# Altium footprint library CONNECTOR.PcbLib: 12 footprints
Each footprint in its own frame and in the unit in brackets; x right, y up, seen from the top. Pads: shape width x height; smd on the part's side, far side on the other; paste and mask are expansions set on the pad; w line width, h text height; cw(c..) or ccw(c..) is an arc to the next point about the centre after c.
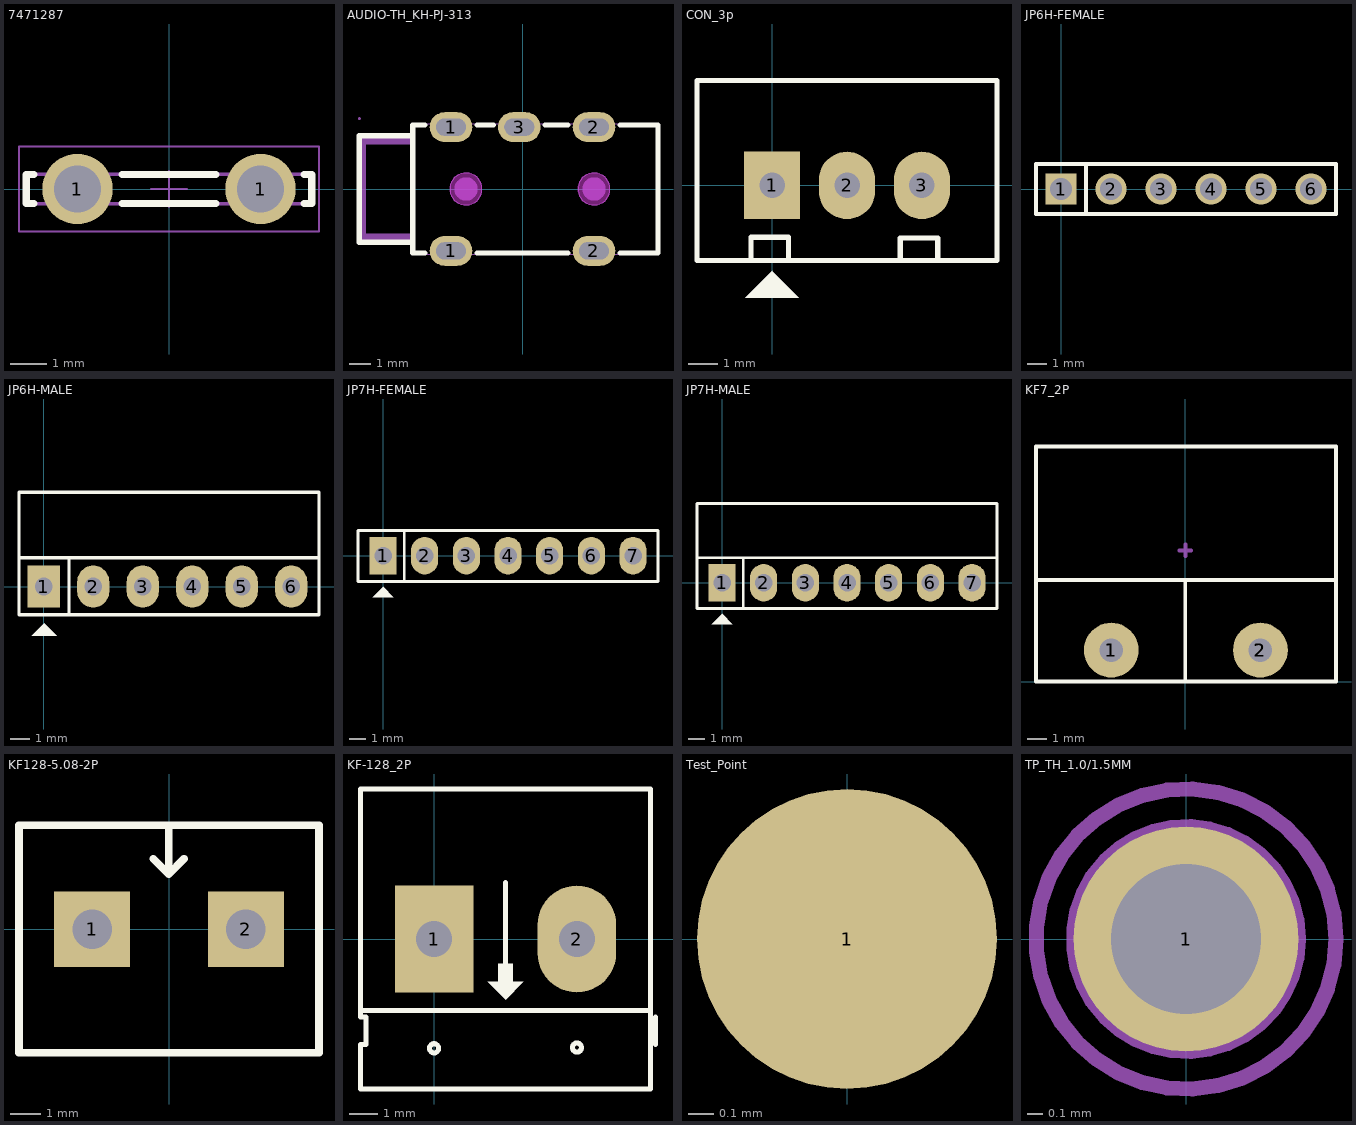
[diagram p0: the footprints below, top view; thin cyan lines are the x and y axes]

## 7471287 [mm] "Mounting Tabs & Tubular Cable Lugs"
height 10.21
pads (2):
  round 1.95 hole 1.3: 1(-2.54,0) 1(2.54,0)
Top Overlay:
  lines w0.2: -3.75,-0.405 -3.96,-0.405 -3.96,0.405 -3.75,0.405 ; -1.3,-0.405 1.3,-0.405 ; -1.3,0.405 1.3,0.405 ; 3.75,-0.405 3.96,-0.405 3.96,0.405 3.75,0.405
Mechanical 13:
  lines w0.1: -3.96,-0.405 -3.96,0.405 3.96,0.405 3.96,-0.405 -3.96,-0.405
Mechanical 15:
  lines w0.05: -0.5,0 0.5,0 ; 0,-0.5 0,0.5 ; -4.16,-1.175 4.16,-1.175 4.16,1.175 -4.16,1.175 -4.16,-1.175
  lines w0.1: -3.96,-0.405 3.96,-0.405 3.96,0.405 -3.96,0.405 -3.96,-0.405
Mechanical 29:
  text "'.Designator'" at -2.832,-0.208 h0.5
3D body "7471287.stp": height 10.27, standoff -3.75, extent -3.96,-0.405 3.96,0.405

## AUDIO-TH_KH-PJ-313 [mm]
pads (5):
  oval 2x1.4 hole 0.8 slot 1.4 at 0 deg: 1(-3.35,-2.9) 1(-3.35,2.9) 2(3.35,-2.9) 2(3.35,2.9) 3(-0.15,2.9)
Top Overlay:
  lines w0.254: -5.15,2.487 -5.15,2.5 -7.65,2.5 -7.65,-2.5 -5.15,-2.5 ; -4.569,-3 -5.15,-3 -5.15,-2.5 ; -4.569,3 -5.15,3 -5.15,-2.5 ; -2.131,-3 2.131,-3 ; -2.131,3 -1.369,3 ; 1.069,3 2.131,3 ; 4.569,-3 6.349,-3 6.349,3 6.001,3 ; 4.569,3 6,3
Keep-Out Layer:
  board cut-out: 4.1,0 4.1,-0.099 4.049,-0.289 3.95,-0.46 3.811,-0.6 3.639,-0.699 3.449,-0.75 3.251,-0.75 3.061,-0.699 2.889,-0.6 2.75,-0.46 2.651,-0.289 2.6,-0.099 2.6,0 2.6,0.099 2.651,0.29 2.75,0.461 2.889,0.6 3.061,0.699 3.251,0.75 3.449,0.75 3.639,0.699 3.811,0.6 3.95,0.461 4.049,0.29 4.1,0.099
  board cut-out: -1.9,0 -1.9,-0.099 -1.951,-0.289 -2.05,-0.46 -2.189,-0.6 -2.36,-0.699 -2.551,-0.75 -2.749,-0.75 -2.939,-0.699 -3.11,-0.6 -3.25,-0.46 -3.349,-0.289 -3.4,-0.099 -3.4,0 -3.4,0.099 -3.349,0.29 -3.25,0.461 -3.11,0.6 -2.939,0.699 -2.749,0.75 -2.551,0.75 -2.36,0.699 -2.189,0.6 -2.05,0.461 -1.951,0.29 -1.9,0.099
Keep-Out Layer:
  circle w0.025: c3.35,0 r0.75
  circle w0.025: c-2.65,0 r0.75
  region: 4.1,0 4.1,-0.099 4.049,-0.289 3.95,-0.46 3.811,-0.6 3.639,-0.699 3.449,-0.75 3.251,-0.75 3.061,-0.699 2.889,-0.6 2.75,-0.46 2.651,-0.289 2.6,-0.099 2.6,0 2.6,0.099 2.651,0.29 2.75,0.461 2.889,0.6 3.061,0.699 3.251,0.75 3.449,0.75 3.639,0.699 3.811,0.6 3.95,0.461 4.049,0.29 4.1,0.099
  region: -1.9,0 -1.9,-0.099 -1.951,-0.289 -2.05,-0.46 -2.189,-0.6 -2.36,-0.699 -2.551,-0.75 -2.749,-0.75 -2.939,-0.699 -3.11,-0.6 -3.25,-0.46 -3.349,-0.289 -3.4,-0.099 -3.4,0 -3.4,0.099 -3.349,0.29 -3.25,0.461 -3.11,0.6 -2.939,0.699 -2.749,0.75 -2.551,0.75 -2.36,0.699 -2.189,0.6 -2.05,0.461 -1.951,0.29 -1.9,0.099
Mechanical 15:
  region: 0.35,3.025 0.35,2.775 -0.65,2.775 -0.65,3.025
  region: 3.85,3.025 3.85,2.775 2.85,2.775 2.85,3.025
  region: 3.85,-2.775 3.85,-3.025 2.85,-3.025 2.85,-2.775
  region: -2.85,-2.775 -2.85,-3.025 -3.85,-3.025 -3.85,-2.775
  region: -2.85,3.025 -2.85,2.775 -3.85,2.775 -3.85,3.025
  region: -7.59,3.3 -7.59,3.275 -7.625,3.24 -7.675,3.24 -7.71,3.275 -7.71,3.3 -7.71,3.325 -7.675,3.36 -7.625,3.36 -7.59,3.325
  lines w0.051: -7.65,-2.5 -7.65,2.5 -5.15,2.5 -5.15,3.05 6.35,3.05 6.35,-3.05 -5.15,-3.05 -5.15,-2.5 -7.65,-2.5
Mechanical 29:
  circle w0.55: c3.35,0 r0.275
  circle w0.55: c-2.65,0 r0.275
  circle w0.025: c3.35,0 r0.75
  circle w0.025: c-2.65,0 r0.75
  region: -5.15,2.506 -7.65,2.506 -7.65,2.5 -7.65,-2.5 -5.15,-2.5 -5.15,-2.094 -7.35,-2.094 -7.35,2.106 -5.15,2.106
  text "'.Designator'" at -7.239,-0.381 h1.52
3D body "XB-PJ35A080-F05J1BR-C.stp": height 6.4, standoff -0.4, extent -7.642,-3.524 6.958,3.27

## CON_3p [mil] "CON 3"
height 200
pads (3):
  rect 75x90 hole 34: 1(0,0)
  oval 75x90 hole 34: 2(100,0) 3(200,0)
Top Overlay:
  region: -35.5,-149.5 35.5,-149.5 0.5,-114.5 0.5,-113.5
  lines w7: -28,-99 -28,-69 22,-69 22,-99 ; 171,-100 171,-70 221,-70 221,-100 ; -100,-100 300,-100 300,0 300,140 -100,140 -100,-100
3D body "SW3dPS-jst-b3b-xh-a.STEP": height 275.59, standoff -133.86, extent -94.88,-90 294.88,136.38

## JP6H-FEMALE [mm] "6 pins, 1 row, straight, gold plating"
height 8.54
pads (6):
  rect 1.6x1.6 hole 1.1: 1(0,0)
  round 1.6 hole 1.1: 2(2.54,0) 3(5.08,0) 4(7.62,0) 5(10.16,0) 6(12.7,0)
Top Overlay:
  lines w0.2: 1.27,-1.27 1.27,1.27 ; -1.27,-1.27 13.97,-1.27 13.97,1.27 -1.27,1.27 -1.27,-1.27
Mechanical 29:
  text "'.Designator'" at -1.016,-0.635 h1.52

## JP6H-MALE [mil]
pads (6):
  rect 65x85 hole 36: 1(0,0)
  oval 65x85 hole 36: 2(100,0) 3(200,0) 4(300,0) 5(400,0) 6(500,0)
Top Overlay:
  region: 1,-74 -24,-99 26,-99
  lines w7: 51,-57 51,56 ; -50,58 -50,190 556,190 556,58 ; -50,58 556,58 ; -50,58 -50,-57 556,-57 556,58
Mechanical 29:
  text "'.Designator'" at 0,24.99 h60
3D body "JP6H.stp": height 99.03, standoff -93.89, extent -46.06,-14.96 546.07,423.63

## JP7H-FEMALE [mil]
pads (7):
  rect 65x90 hole 42: 1(0,0)
  oval 65x90 hole 42: 2(100,0) 3(200,0) 4(300,0) 5(400,0) 6(500,0) 7(600,0)
Top Overlay:
  region: 0,-75 -25,-100 25,-100
  lines w7: -57,60 660,60 660,-62 -60,-62 -60,60 -50,60 ; 51,-58 51,60

## JP7H-MALE [mil]
pads (7):
  rect 65x90 hole 42: 1(0,0)
  oval 65x90 hole 42: 2(100,0) 3(200,0) 4(300,0) 5(400,0) 6(500,0) 7(600,0)
Top Overlay:
  region: 0,-75 -25,-100 25,-100
  lines w7: -57,60 660,60 ; -50,60 -60,60 ; 51,-58 51,60 ; -60,60 -60,-62 660,-62 660,60 ; -60,60 -60,190 660,190 660,60
3D body "JP7H.stp": height 99.03, standoff -93.89, extent -46.06,-24.96 646.07,413.63

## KF7_2P [mm]
pads (8):
  round 2.794 hole 1.2: 1(-3.78,1.6) 1(-3.78,1.6) 1(-3.78,1.615) 1(-3.78,1.615) 2(3.84,1.6) 2(3.84,1.6) 2(3.84,1.615) 2(3.84,1.615)
Top Overlay:
  lines w0.2: -7.62,5.2 7.62,5.2 ; 0,0.015 0,5.19 ; -7.62,0.015 -7.62,12 7.7,12 7.7,0.015 -7.62,0.015
Mechanical 15:
  lines w0.2: -0.29,6.705 0.295,6.705 ; 0.01,6.405 0.01,7.005
Mechanical 29:
  text "'.Designator'" at -7.106,5.872 h1.52
3D body "KF7_62-2P.STEP": height 12.41, standoff -6.29, extent -7.58,-0.03 7.66,11.97

## KF128-5.08-2P [mm]
pads (2):
  rect 2.5x2.5 hole 1.3: 1(-2.54,0) 2(2.54,0)
Top Overlay:
  lines w0.254: -0.521,2.324 -0.013,1.816 ; -0.013,3.378 -0.013,1.816 ; 0.495,2.324 -0.013,1.816 ; -4.953,-4.077 4.953,-4.077 4.953,3.429 -4.953,3.429 -4.953,-4.077
Mechanical 29:
  text "'.Designator'" at -4.572,-0.635 h1.52
3D body "SW3DPS-HDR1x2-MED-GREEN.STEP": height 10, standoff -4, extent -5,-4.071 5,3.429

## KF-128_2P [mil]
height 300
pads (2):
  rect 110x149.61 hole 50: 1(0,0)
  oval 110x149.61 hole 50: 2(200,0)
Top Overlay:
  circle w7: c200,-152 r6.4
  circle w7: c0,-153 r6.4
  region: 100,-85 125,-60 110,-60 110,-35 90,-35 90,-60 75,-60
  lines w7: -99,-100 298,-100 ; 100,-72 100,79 ; 310,-148 310,-109 ; -103,-210 303,-210 303,210 -103,210 -103,-109 -95,-109 -95,-148 -103,-148 -103,-210
3D body "User Library-KF128.STEP": height 562.99, standoff -196.85, extent 99.38,-205.69 323,207.69
3D body "User Library-KF128.STEP": height 562.99, standoff -196.85, extent -100.62,-206.69 123,206.69

## Test_Point [mm]
pads (1):
  round 1.2 smd paste-0.6: 1(0,0)

## TP_TH_1.0/1.5MM [mm]
pads (1):
  round 1.5 hole 1: 1(0,0)
Mechanical 15:
  circle w0.1: c0,0 r1
  lines w0.1: -0.254,0 0.254,0 ; 0,-0.254 0,0.254
Mechanical 29:
  circle w0.1: c0,0 r0.75
  text ".Designator" at -0.554,-0.221 h1.5